# Altium footprint library CarrierBoard.PcbLib: 40 footprints (part 2 of 3)
Each footprint in its own frame and in the unit in brackets; x right, y up, seen from the top. Pads: shape width x height; smd on the part's side, far side on the other; paste and mask are expansions set on the pad; w line width, h text height; cw(c..) or ccw(c..) is an arc to the next point about the centre after c.
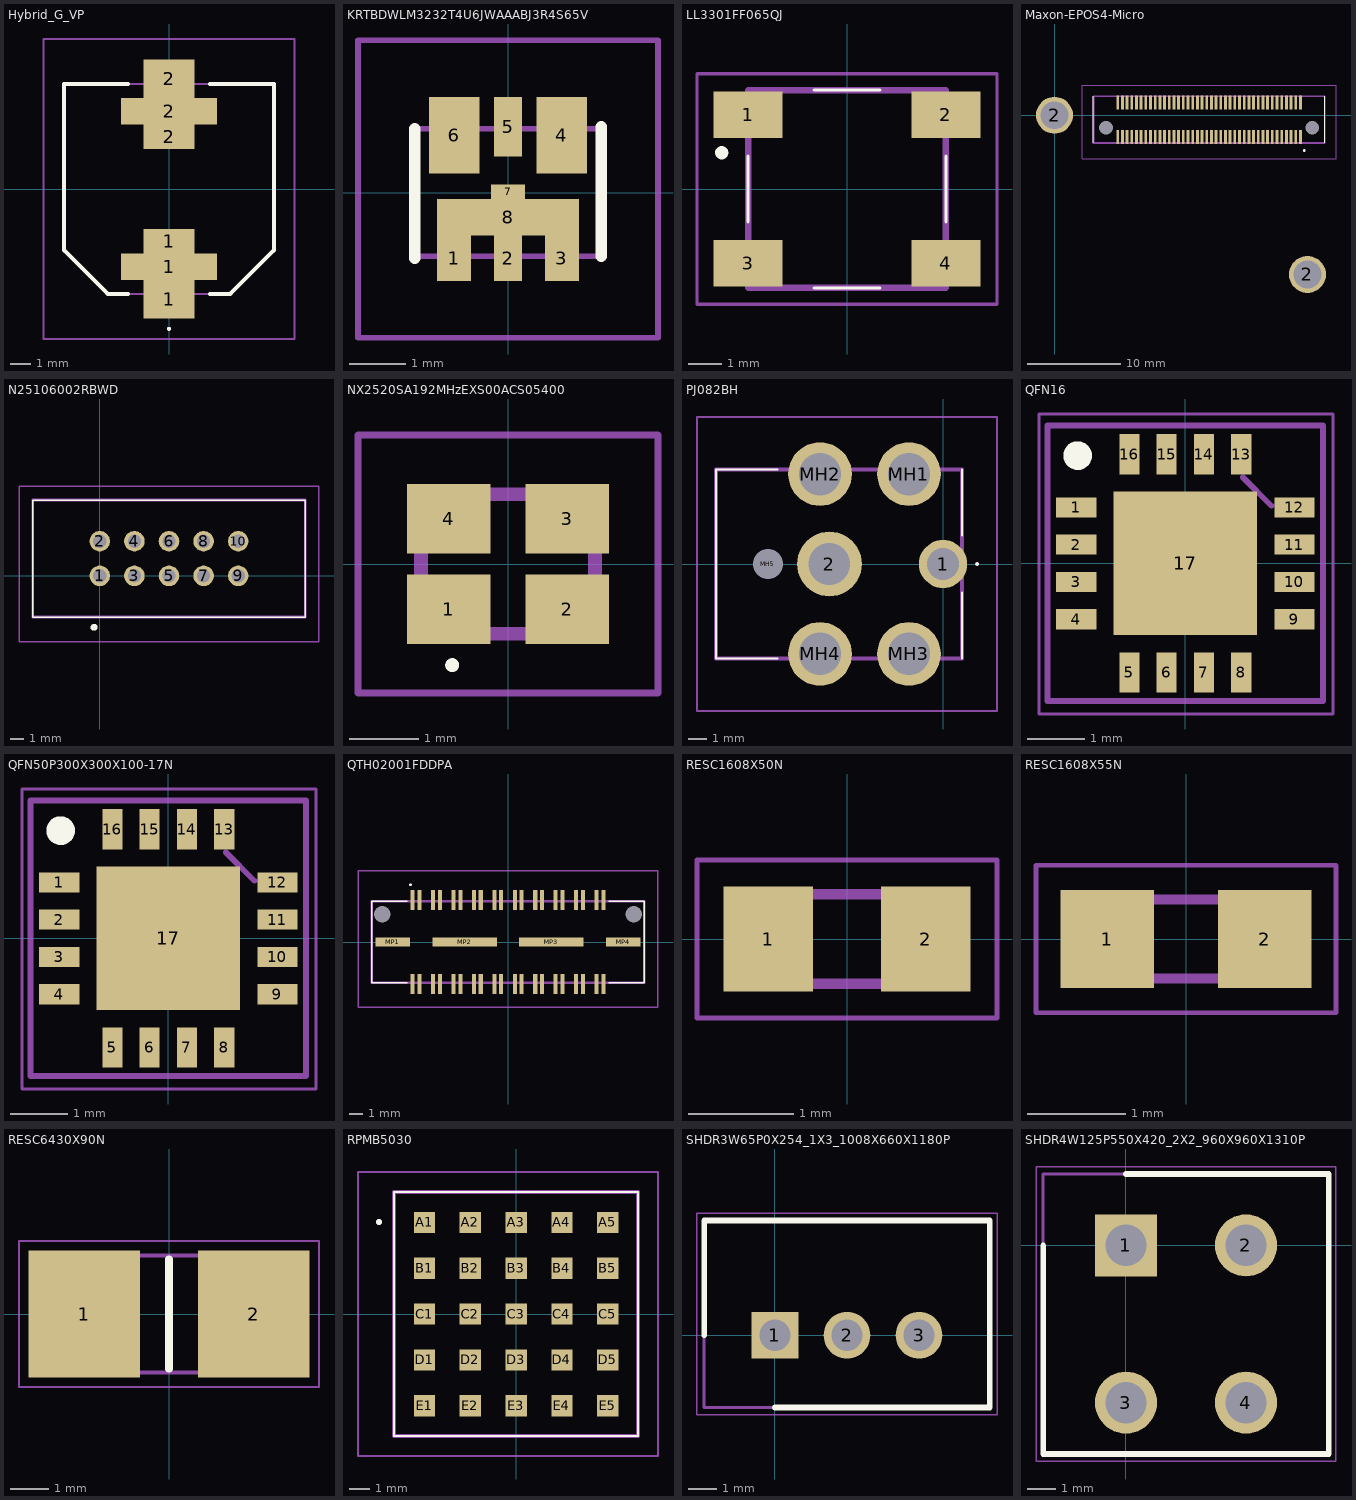
[diagram p1: the footprints below, top view; thin cyan lines are the x and y axes]

## Hybrid_G_VP [mm]
pads (6):
  rect 2.5x1.9 smd: 1(0,-5.4) 2(0,5.4)
  rect 4.7x1.3 smd: 1(0,-3.8) 2(0,3.8)
  rect 2.5x1.2 smd: 1(0,-2.55) 2(0,2.55)
Top Overlay:
  lines w0.1: 0,-6.9 cw(c0,-6.85) 0,-6.8 cw(c0,-6.85) 0,-6.9
  lines w0.2: -2,-5.15 -3,-5.15 -5.15,-3 -5.15,5.15 -2,5.15 ; 2,-5.15 3,-5.15 5.15,-3 5.15,5.15 2,5.15
Mechanical 13:
  lines w0.1: -5.15,-3 -3,-5.15 3,-5.15 5.15,-3 5.15,5.15 -5.15,5.15 -5.15,-3
Mechanical 15:
  lines w0.1: -6.15,-7.35 6.15,-7.35 6.15,7.35 -6.15,7.35 -6.15,-7.35
3D body "EEH-ZS1V681UV.stp": height 10.59, standoff 0.09, extent -5.15,-5.85 5.15,5.85

## KRTBDWLM3232T4U6JWAAABJ3R4S65V [mm]
pads (8):
  rect 0.6x0.8 smd: 1(-0.95,-1.162) 3(0.95,-1.162)
  rect 0.5x0.8 smd: 2(0,-1.162)
  rect 0.9x1.35 smd: 4(0.95,1.012) 6(-0.95,1.012)
  rect 0.5x1.05 smd: 5(0,1.162)
  rect 0.6x0.25 smd: 7(0,0.013)
  rect 2.5x0.65 smd: 8(0,-0.437)
Top Overlay:
  lines w0.2: -1.65,-1.162 -1.65,1.125 ; 1.65,-1.125 1.65,1.162
Mechanical 13:
  lines w0.1: -1.65,-1.125 1.65,-1.125 1.65,1.125 -1.65,1.125 -1.65,-1.125
Mechanical 15:
  lines w0.1: -2.65,-2.563 2.65,-2.563 2.65,2.688 -2.65,2.688 -2.65,-2.563
3D body "KRTBDWLM32.32-T4U6-JW+AAAB-J3+R4S6-5V.stp": height 0.8, standoff 0, extent -1.65,-1.125 1.65,1.125

## LL3301FF065QJ [mm]
pads (4):
  rect 2.1x1.4 smd: 1(-3,2.25) 2(3,2.25) 3(-3,-2.25) 4(3,-2.25)
Top Overlay:
  lines w0.1: -3,-1 -3,1 ; -1,-3 1,-3 ; -1,3 1,3 ; 3,-1 3,1
  lines w0.2: -3.8,1 cw(c-3.8,1.1) -3.8,1.2 cw(c-3.8,1.1) -3.8,1
Mechanical 13:
  lines w0.2: -3,-3 3,-3 3,3 -3,3 -3,-3
Mechanical 15:
  lines w0.1: -4.55,-3.5 4.55,-3.5 4.55,3.5 -4.55,3.5 -4.55,-3.5
3D body "LL3301_SMD_Button.step": height 3.8, standoff -0.5, extent -5,-3 5,3

## Maxon-EPOS4-Micro [mm]
pads (84):
  rect 0.3x1.5 smd: 1(26.249,-2.321) 2(26.249,1.379) 3(25.749,-2.321) 4(25.749,1.379) 5(25.249,-2.321) 6(25.249,1.379) 7(24.749,-2.321) 8(24.749,1.379) 9(24.249,-2.321) 10(24.249,1.379) 11(23.749,-2.321) 12(23.749,1.379) 13(23.249,-2.321) 14(23.249,1.379) 15(22.749,-2.321) 16(22.749,1.379) 17(22.249,-2.321) 18(22.249,1.379) 19(21.749,-2.321) 20(21.749,1.379) 21(21.249,-2.321) 22(21.249,1.379) 23(20.749,-2.321) 24(20.749,1.379) 25(20.249,-2.321) 26(20.249,1.379) 27(19.749,-2.321) 28(19.749,1.379) 29(19.249,-2.321) 30(19.249,1.379) 31(18.749,-2.321) 32(18.749,1.379) 33(18.249,-2.321) 34(18.249,1.379) 35(17.749,-2.321) 36(17.749,1.379) 37(17.249,-2.321) 38(17.249,1.379) 39(16.749,-2.321) 40(16.749,1.379) 41(16.249,-2.321) 42(16.249,1.379) 43(15.749,-2.321) 44(15.749,1.379) 45(15.249,-2.321) 46(15.249,1.379) 47(14.749,-2.321) 48(14.749,1.379) 49(14.249,-2.321) 50(14.249,1.379) 51(13.749,-2.321) 52(13.749,1.379) 53(13.249,-2.321) 54(13.249,1.379) 55(12.749,-2.321) 56(12.749,1.379) 57(12.249,-2.321) 58(12.249,1.379) 59(11.749,-2.321) 60(11.749,1.379) 61(11.249,-2.321) 62(11.249,1.379) 63(10.749,-2.321) 64(10.749,1.379) 65(10.249,-2.321) 66(10.249,1.379) 67(9.749,-2.321) 68(9.749,1.379) 69(9.249,-2.321) 70(9.249,1.379) 71(8.749,-2.321) 72(8.749,1.379) 73(8.249,-2.321) 74(8.249,1.379) 75(7.749,-2.321) 76(7.749,1.379) 77(7.249,-2.321) 78(7.249,1.379) 79(6.749,-2.321) 80(6.749,1.379)
  round 3.95 hole 2.95: 2(0,0) 2(27,-17)
  round 0.725 hole 1.45 unplated: 81(27.499,-1.321) 82(5.5,-1.323)
Top Overlay:
  circle w0.2: c26.659,-3.773 r0.05
  lines w0.1: 4.149,-2.961 4.149,2.019 ; 28.849,-2.961 28.849,2.019
Mechanical 13:
  lines w0.2: 4.149,-2.961 28.849,-2.961 28.849,2.019 4.149,2.019 4.149,-2.961
Mechanical 15:
  lines w0.05: 2.949,-4.671 30.049,-4.671 30.049,3.219 2.949,3.219 2.949,-4.671
3D body "LSHM-140-02.5-L-DV-A-N-K-TR.stp": height 4.1, standoff -0.85, extent 4.121,-2.977 28.921,2.003
3D body "638328_EPOS4_Micro_24-5_CAN.stp": height 8.06, standoff 1.01, extent -2.967,-18.97 29.033,3.03

## N25106002RBWD [mm]
pads (10):
  round 1.509 hole 0.97: 1(0,0) 2(0,2.54) 3(2.54,0) 4(2.54,2.54) 5(5.08,0) 6(5.08,2.54) 7(7.62,0) 8(7.62,2.54) 9(10.16,0) 10(10.16,2.54)
Top Overlay:
  lines w0.1: -4.93,-3.025 -4.93,5.565 15.09,5.565 15.09,-3.025 -4.93,-3.025
  lines w0.4: -0.42,-3.83 ccw(c-0.42,-3.78) -0.42,-3.73 ccw(c-0.42,-3.78) -0.42,-3.83
Mechanical 13:
  lines w0.2: -4.93,-3.025 -4.93,5.565 15.09,5.565 15.09,-3.025 -4.93,-3.025
Mechanical 15:
  lines w0.1: -5.93,-4.83 -5.93,6.565 16.09,6.565 16.09,-4.83 -5.93,-4.83
3D body "829538-5.stp": height 10, standoff -3.2, extent -1.016,-2.504 11.184,6.096

## NX2520SA192MHzEXS00ACS05400 [mm]
pads (4):
  rect 1.2x1 smd: 1(-0.85,-0.65) 2(0.85,-0.65) 3(0.85,0.65) 4(-0.85,0.65)
Top Overlay:
  lines w0.1: -0.8,-1.5 ccw(c-0.8,-1.45) -0.8,-1.4 ccw(c-0.8,-1.45) -0.8,-1.5
Mechanical 13:
  lines w0.2: -1.25,-1 -1.25,1 1.25,1 1.25,-1 -1.25,-1
Mechanical 15:
  lines w0.1: -2.15,-1.85 -2.15,1.85 2.15,1.85 2.15,-1.85 -2.15,-1.85
3D body "NX2520SA-25.000M-STD-CSW-5.stp": height 0.65, standoff 0, extent -1.35,-1.05 1.35,1.05

## PJ082BH [mm]
pads (7):
  round 2.55 hole 1.7: 1(0,0)
  round 3.42 hole 2.193: 2(-6,0)
  round 3.36 hole 2.24: MH1(-1.8,4.75) MH2(-6.5,4.75) MH3(-1.8,-4.75) MH4(-6.5,-4.75)
  round 0.8 hole 1.6 unplated: MH5(-9.25,0)
Top Overlay:
  lines w0.1: -8.75,-5 -12,-5 -12,5 -8.75,5 ; 1,-5 1,-1.5 ; 1,1.5 1,5 ; 1.75,0 ccw(c1.8,0) 1.85,0 ccw(c1.8,0) 1.75,0
Mechanical 13:
  lines w0.2: -12,-5 1,-5 1,5 -12,5 -12,-5
Mechanical 15:
  lines w0.1: -13,-7.76 2.85,-7.76 2.85,7.76 -13,7.76 -13,-7.76
3D body "CUI_DEVICES_PJ-082BH.step": height 9.55, standoff -2.65, extent -12.114,-5.1 1.016,5.1

## QFN16 [mm]
pads (17):
  rect 0.7x0.35 smd: 1(-1.9,0.975) 2(-1.9,0.325) 3(-1.9,-0.325) 4(-1.9,-0.975) 9(1.9,-0.975) 10(1.9,-0.325) 11(1.9,0.325) 12(1.9,0.975)
  rect 0.35x0.7 smd: 5(-0.975,-1.9) 6(-0.325,-1.9) 7(0.325,-1.9) 8(0.975,-1.9) 13(0.975,1.9) 14(0.325,1.9) 15(-0.325,1.9) 16(-0.975,1.9)
  rect 2.5x2.5 smd: 17(0,0)
Top Overlay:
  circle w0.25: c-1.875,1.875 r0.125
Mechanical 13:
  lines w0.1: 1,1.5 1.5,1 ; -2.4,-2.4 -2.4,2.4 2.4,2.4 2.4,-2.4 -2.4,-2.4
Mechanical 15:
  lines w0.05: -2.55,-2.625 -2.55,2.6 2.575,2.6 2.575,-2.625 -2.55,-2.625
3D body "LV8716QA-MH.stp": height 1, standoff 0, extent -1.55,-1.55 1.55,1.55

## QFN50P300X300X100-17N [mm]
pads (17):
  rect 0.7x0.35 smd: 1(-1.9,0.975) 2(-1.9,0.325) 3(-1.9,-0.325) 4(-1.9,-0.975) 9(1.9,-0.975) 10(1.9,-0.325) 11(1.9,0.325) 12(1.9,0.975)
  rect 0.35x0.7 smd: 5(-0.975,-1.9) 6(-0.325,-1.9) 7(0.325,-1.9) 8(0.975,-1.9) 13(0.975,1.9) 14(0.325,1.9) 15(-0.325,1.9) 16(-0.975,1.9)
  rect 2.5x2.5 smd: 17(0,0)
Top Overlay:
  circle w0.25: c-1.875,1.875 r0.125
Mechanical 13:
  lines w0.1: 1,1.5 1.5,1 ; -2.4,-2.4 2.4,-2.4 2.4,2.4 -2.4,2.4 -2.4,-2.4
Mechanical 15:
  lines w0.05: -2.55,-2.625 2.575,-2.625 2.575,2.6 -2.55,2.6 -2.55,-2.625
3D body "LV8716QA-MH.stp": height 1, standoff 0, extent -1.55,-1.55 1.55,1.55

## QTH02001FDDPA [mm]
pads (46):
  rect 0.3x1.45 smd: 1(-7,3.08) 2(-7,-3.08) 3(-6.5,3.08) 4(-6.5,-3.08) 5(-5.5,3.08) 6(-5.5,-3.08) 7(-5,3.08) 8(-5,-3.08) 9(-4,3.08) 10(-4,-3.08) 11(-3.5,3.08) 12(-3.5,-3.08) 13(-2.5,3.08) 14(-2.5,-3.08) 15(-2,3.08) 16(-2,-3.08) 17(-1,3.08) 18(-1,-3.08) 19(-0.5,3.08) 20(-0.5,-3.08) 21(0.5,3.08) 22(0.5,-3.08) 23(1,3.08) 24(1,-3.08) 25(2,3.08) 26(2,-3.08) 27(2.5,3.08) 28(2.5,-3.08) 29(3.5,3.08) 30(3.5,-3.08) 31(4,3.08) 32(4,-3.08) 33(5,3.08) 34(5,-3.08) 35(5.5,3.08) 36(5.5,-3.08) 37(6.5,3.08) 38(6.5,-3.08) 39(7,3.08) 40(7,-3.08)
  round 0.6 hole 1.2 unplated: MH1(-9.24,2.03) MH2(9.24,2.03)
  rect 2.54x0.64 smd: MP1(-8.445,0) MP4(8.445,0)
  rect 4.7x0.64 smd: MP2(-3.175,0) MP3(3.175,0)
Top Overlay:
  lines w0.1: -7.4,-3 -10,-3 -10.01,2.985 -7.4,2.985 ; 7.4,-3 10,-3 10.01,2.985 7.4,2.985 ; -7.2,4.2 cw(c-7.15,4.2) -7.1,4.2 cw(c-7.15,4.2) -7.2,4.2
Mechanical 13:
  lines w0.2: -10.01,-2.985 -10.01,2.985 10.01,2.985 10.01,-2.985 -10.01,-2.985
Mechanical 15:
  lines w0.1: -11.01,-4.805 -11.01,5.25 11.01,5.25 11.01,-4.805 -11.01,-4.805
3D body "QTH-020-01-F-D-DP-A.stp": height 4.26, standoff -0.77, extent -9.779,-3.581 10.236,3.531

## RESC1608X50N [mm]
pads (2):
  rect 0.85x1 smd: 1(-0.75,0) 2(0.75,0)
Mechanical 13:
  lines w0.1: -0.788,-0.425 0.788,-0.425 0.788,0.425 -0.788,0.425 -0.788,-0.425
Mechanical 15:
  lines w0.05: -1.425,-0.75 1.425,-0.75 1.425,0.75 -1.425,0.75 -1.425,-0.75
3D body "CRCW0603118KFKEA.stp": height 0.5, standoff 0, extent -0.787,-0.425 0.787,0.425

## RESC1608X55N [mm]
pads (2):
  rect 0.95x1 smd: 1(-0.8,0) 2(0.8,0)
Mechanical 13:
  lines w0.1: -0.8,-0.4 0.8,-0.4 0.8,0.4 -0.8,0.4 -0.8,-0.4
Mechanical 15:
  lines w0.05: -1.525,-0.75 1.525,-0.75 1.525,0.75 -1.525,0.75 -1.525,-0.75
3D body "ERA-3ARB332V.stp": height 0.55, standoff 0, extent -0.8,-0.4 0.8,0.4

## RESC6430X90N [mm]
pads (2):
  rect 2.9x3.3 smd: 1(-2.2,0) 2(2.2,0)
Top Overlay:
  lines w0.2: 0,-1.425 0,1.425
Mechanical 13:
  lines w0.1: -3.175,-1.525 3.175,-1.525 3.175,1.525 -3.175,1.525 -3.175,-1.525
Mechanical 15:
  lines w0.05: -3.9,-1.9 3.9,-1.9 3.9,1.9 -3.9,1.9 -3.9,-1.9
3D body "PCS2512FR0010ET.stp": height 0.9, standoff 0, extent -3.175,-1.525 3.175,1.525

## RPMB5030 [mm]
pads (25):
  rect 1.06x1.06 smd: A1(-4.58,4.58) A2(-2.29,4.58) A3(0,4.58) A4(2.29,4.58) A5(4.58,4.58) B1(-4.58,2.29) B2(-2.29,2.29) B3(0,2.29) B4(2.29,2.29) B5(4.58,2.29) C1(-4.58,0) C2(-2.29,0) C3(0,0) C4(2.29,0) C5(4.58,0) D1(-4.58,-2.29) D2(-2.29,-2.29) D3(0,-2.29) D4(2.29,-2.29) D5(4.58,-2.29) E1(-4.58,-4.58) E2(-2.29,-4.58) E3(0,-4.58) E4(2.29,-4.58) E5(4.58,-4.58)
Top Overlay:
  lines w0.1: -6.1,-6.09 6.09,-6.09 6.09,6.1 -6.1,6.1 -6.1,-6.09
  lines w0.2: -6.905,4.605 ccw(c-6.855,4.605) -6.805,4.605 ; -6.905,4.605 cw(c-6.855,4.605) -6.805,4.605 ; -6.905,4.605 ccw(c-6.855,4.605) -6.805,4.605
Mechanical 13:
  lines w0.2: -6.1,-6.09 6.09,-6.09 6.09,6.1 -6.1,6.1 -6.1,-6.09
Mechanical 15:
  lines w0.1: -7.905,-7.09 7.09,-7.09 7.09,7.1 -7.905,7.1 -7.905,-7.09
3D body "RPMB-3.0.step": height 3.95, standoff -0.02, extent -6.345,-6.192 6.345,6.198

## SHDR3W65P0X254_1X3_1008X660X1180P [mm]
pads (3):
  rect 1.65x1.65 hole 1.1: 1(0,0)
  round 1.65 hole 1.1: 2(2.54,0) 3(5.08,0)
Top Overlay:
  lines w0.2: -2.5,0 -2.5,4.05 7.58,4.05 7.58,-2.55 0,-2.55
Mechanical 13:
  lines w0.1: -2.5,-2.55 -2.5,4.05 7.58,4.05 7.58,-2.55 -2.5,-2.55
Mechanical 15:
  lines w0.05: -2.75,-2.8 -2.75,4.3 7.83,4.3 7.83,-2.8 -2.75,-2.8
3D body "171971-0003.stp": height 11.8, standoff -3.3, extent -2.5,-3.3 7.58,3.3

## SHDR4W125P550X420_2X2_960X960X1310P [mm]
pads (4):
  rect 2.175x2.175 hole 1.45: 1(0,0)
  round 2.175 hole 1.45: 2(4.2,0) 3(0,-5.5) 4(4.2,-5.5)
Top Overlay:
  lines w0.2: -2.9,0 -2.9,-7.3 7.1,-7.3 7.1,2.5 0,2.5
Mechanical 13:
  lines w0.1: -2.9,-7.3 7.1,-7.3 7.1,2.5 -2.9,2.5 -2.9,-7.3
Mechanical 15:
  lines w0.05: -3.15,-7.55 7.35,-7.55 7.35,2.75 -3.15,2.75 -3.15,-7.55
3D body "39-29-0043.stp": height 12.71, standoff -3.59, extent -3.1,-8.79 7.3,2.21